# EAGLE library part IMU (library quadparts)
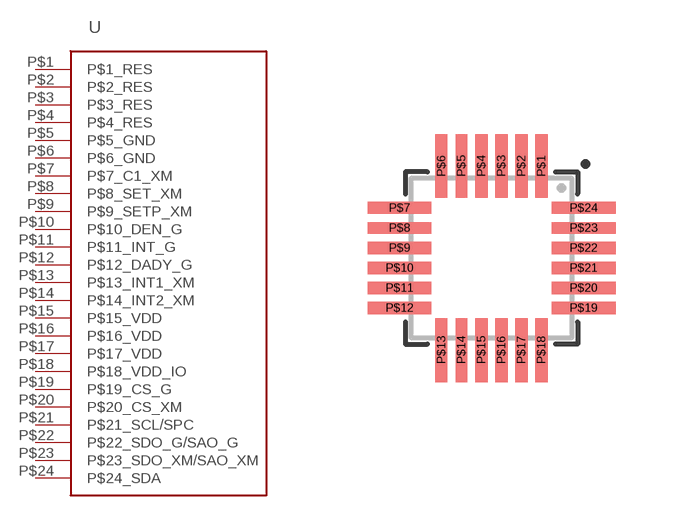
[diagram p0: symbol with the pads of LGA-24_4X4MM; footprint LGA-24_4X4MM]

Designator prefix -

## IMU (CREATOR: Xuefei; DIST: DIGIKEY; DISTPN: 497-13902-1-ND; MFP: LSM9DS0TR; MFR: STMicroelectronics)  [LGA-24_4X4MM]
P$1  P$1_RES
P$2  P$2_RES
P$3  P$3_RES
P$4  P$4_RES
P$5  P$5_GND
P$6  P$6_GND
P$7  P$7_C1_XM
P$8  P$8_SET_XM
P$9  P$9_SETP_XM
P$10  P$10_DEN_G
P$11  P$11_INT_G
P$12  P$12_DADY_G
P$13  P$13_INT1_XM
P$14  P$14_INT2_XM
P$15  P$15_VDD
P$16  P$16_VDD
P$17  P$17_VDD
P$18  P$18_VDD_IO
P$19  P$19_CS_G
P$20  P$20_CS_XM
P$21  P$21_SCL/SPC
P$22  P$22_SDO_G/SAO_G
P$23  P$23_SDO_XM/SAO_XM
P$24  P$24_SDA

## Footprint LGA-24_4X4MM (pad centres in mm)
smd 0.3 x 1.6: P$1 1.25,2.3; P$2 0.75,2.3; P$3 0.25,2.3; P$4 -0.25,2.3; P$5 -0.75,2.3; P$6 -1.25,2.3; P$13 -1.25,-2.3; P$14 -0.75,-2.3; P$15 -0.25,-2.3; P$16 0.25,-2.3; P$17 0.75,-2.3; P$18 1.25,-2.3
smd 1.6 x 0.3: P$7 -2.3,1.25; P$8 -2.3,0.75; P$9 -2.3,0.25; P$10 -2.3,-0.25; P$11 -2.3,-0.75; P$12 -2.3,-1.25; P$19 2.3,-1.25; P$20 2.3,-0.75; P$21 2.3,-0.25; P$22 2.3,0.25; P$23 2.3,0.75; P$24 2.3,1.25